# Altium footprint library AT89S.PcbLib: 2 footprints
Each footprint in its own frame and in the unit in brackets; x right, y up, seen from the top. Pads: shape width x height; smd on the part's side, far side on the other; paste and mask are expansions set on the pad; w line width, h text height; cw(c..) or ccw(c..) is an arc to the next point about the centre after c.
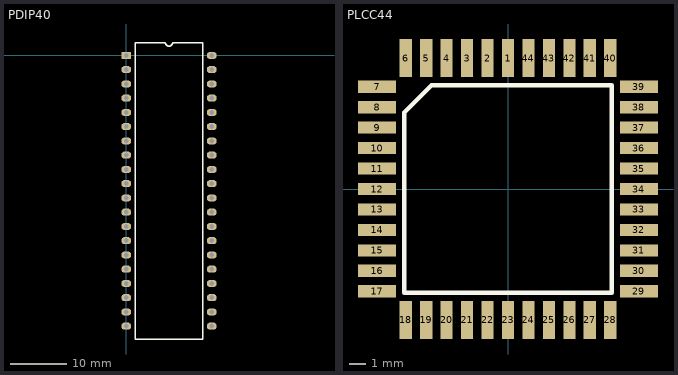
[diagram p0: the footprints below, top view; thin cyan lines are the x and y axes]

## PDIP40 [mil]
pads (40):
  rect 70x50 hole 35: 1(0,0)
  oval 70x50 hole 35: 2(0,-100) 3(0,-200) 4(0,-300) 5(0,-400) 6(0,-500) 7(0,-600) 8(0,-700) 9(0,-800) 10(0,-900) 11(0,-1000) 12(0,-1100) 13(0,-1200) 14(0,-1300) 15(0,-1400) 16(0,-1500) 17(0,-1600) 18(0,-1700) 19(0,-1800) 20(0,-1900) 21(600,-1900) 22(600,-1800) 23(600,-1700) 24(600,-1600) 25(600,-1500) 26(600,-1400) 27(600,-1300) 28(600,-1200) 29(600,-1100) 30(600,-1000) 31(600,-900) 32(600,-800) 33(600,-700) 34(600,-600) 35(600,-500) 36(600,-400) 37(600,-300) 38(600,-200) 39(600,-100) 40(600,0)
Top Overlay:
  lines w10: 63.78,-1990 536.22,-1990 536.22,90 325,90 cw(c300,90) 275,90 63.78,90 63.78,-1990
3D body: height 100, standoff 15, extent 63.78,-1990 536.22,90.08
3D body: height 50, standoff 0, extent 536.5,-12 610,12.01
3D body: height 50, standoff 0, extent 536.5,-112 610,-87.99
3D body: height 50, standoff 0, extent 536.5,-212 610,-187.99
3D body: height 50, standoff 0, extent 536.5,-312 610,-287.99
3D body: height 50, standoff 0, extent 536.5,-412 610,-387.99
3D body: height 50, standoff 0, extent 536.5,-512 610,-487.99
3D body: height 50, standoff 0, extent 536.5,-612 610,-587.99
3D body: height 50, standoff 0, extent 536.5,-712 610,-687.99
3D body: height 50, standoff 0, extent 536.5,-812 610,-787.99
3D body: height 50, standoff 0, extent 536.5,-912 610,-887.99
3D body: height 50, standoff 0, extent 536.5,-1012 610,-987.99
3D body: height 50, standoff 0, extent 536.5,-1112 610,-1087.99
3D body: height 50, standoff 0, extent 536.5,-1212 610,-1187.99
3D body: height 50, standoff 0, extent 536.5,-1312 610,-1287.99
3D body: height 50, standoff 0, extent 536.5,-1412 610,-1387.99
3D body: height 50, standoff 0, extent 536.5,-1512 610,-1487.99
3D body: height 50, standoff 0, extent 536.5,-1612 610,-1587.99
3D body: height 50, standoff 0, extent 536.5,-1712 610,-1687.99
3D body: height 50, standoff 0, extent 536.5,-1812 610,-1787.99
3D body: height 50, standoff 0, extent 536.5,-1912 610,-1887.99
3D body: height 50, standoff 0, extent -10,-1912.01 63.5,-1888
3D body: height 50, standoff 0, extent -10,-1812.01 63.5,-1788
3D body: height 50, standoff 0, extent -10,-1712.01 63.5,-1688
3D body: height 50, standoff 0, extent -10,-1612.01 63.5,-1588
3D body: height 50, standoff 0, extent -10,-1512.01 63.5,-1488
3D body: height 50, standoff 0, extent -10,-1412.01 63.5,-1388
3D body: height 50, standoff 0, extent -10,-1312.01 63.5,-1288
3D body: height 50, standoff 0, extent -10,-1212.01 63.5,-1188
3D body: height 50, standoff 0, extent -10,-1112.01 63.5,-1088
3D body: height 50, standoff 0, extent -10,-1012.01 63.5,-988
3D body: height 50, standoff 0, extent -10,-912.01 63.5,-888
3D body: height 50, standoff 0, extent -10,-812.01 63.5,-788
3D body: height 50, standoff 0, extent -10,-712.01 63.5,-688
3D body: height 50, standoff 0, extent -10,-612.01 63.5,-588
3D body: height 50, standoff 0, extent -10,-512.01 63.5,-488
3D body: height 50, standoff 0, extent -10,-412.01 63.5,-388
3D body: height 50, standoff 0, extent -10,-312.01 63.5,-288
3D body: height 50, standoff 0, extent -10,-212.01 63.5,-188
3D body: height 50, standoff 0, extent -10,-112.01 63.5,-88
3D body: height 50, standoff 0, extent -10,-12.01 63.5,12

## PLCC44 [mil]
pads (44):
  rect 30x93 smd: 1(0,320) 2(-50,320) 3(-100,320) 4(-150,320) 5(-200,320) 6(-250,320) 18(-250,-320) 19(-200,-320) 20(-150,-320) 21(-100,-320) 22(-50,-320) 23(0,-320) 24(50,-320) 25(100,-320) 26(150,-320) 27(200,-320) 28(250,-320) 40(250,320) 41(200,320) 42(150,320) 43(100,320) 44(50,320)
  rect 93x30 smd: 7(-320,250) 8(-320,200) 9(-320,150) 10(-320,100) 11(-320,50) 12(-320,0) 13(-320,-50) 14(-320,-100) 15(-320,-150) 16(-320,-200) 17(-320,-250) 29(320,-250) 30(320,-200) 31(320,-150) 32(320,-100) 33(320,-50) 34(320,0) 35(320,50) 36(320,100) 37(320,150) 38(320,200) 39(320,250)
Top Overlay:
  lines w10: -253.5,-253.5 253.5,-253.5 253.5,253.5 -187,253.5 -253.5,187 -253.5,-253.5
3D body: height 105.12, standoff 0, extent -264.27,326.77 -235.73,346.46
3D body: height 105.12, standoff 0, extent -214.27,326.77 -185.73,346.46
3D body: height 105.12, standoff 0, extent -164.27,326.77 -135.73,346.46
3D body: height 105.12, standoff 0, extent -114.27,326.77 -85.73,346.46
3D body: height 105.12, standoff 0, extent -64.27,326.77 -35.73,346.46
3D body: height 105.12, standoff 0, extent -14.27,326.77 14.27,346.46
3D body: height 105.12, standoff 0, extent 35.73,326.77 64.27,346.46
3D body: height 105.12, standoff 0, extent 85.73,326.77 114.27,346.46
3D body: height 105.12, standoff 0, extent 135.73,326.77 164.27,346.46
3D body: height 105.12, standoff 0, extent 185.73,326.77 214.27,346.46
3D body: height 105.12, standoff 0, extent 235.73,326.77 264.27,346.46
3D body: height 105.12, standoff 0, extent 326.77,235.73 346.46,264.27
3D body: height 105.12, standoff 0, extent 326.77,185.73 346.46,214.27
3D body: height 105.12, standoff 0, extent 326.77,135.73 346.46,164.27
3D body: height 105.12, standoff 0, extent 326.77,85.73 346.46,114.27
3D body: height 105.12, standoff 0, extent 326.77,35.73 346.46,64.27
3D body: height 105.12, standoff 0, extent 326.77,-14.27 346.46,14.27
3D body: height 105.12, standoff 0, extent 326.77,-64.27 346.46,-35.73
3D body: height 105.12, standoff 0, extent 326.77,-114.27 346.46,-85.73
3D body: height 105.12, standoff 0, extent 326.77,-164.27 346.46,-135.73
3D body: height 105.12, standoff 0, extent 326.77,-214.27 346.46,-185.73
3D body: height 105.12, standoff 0, extent 326.77,-264.27 346.46,-235.73
3D body: height 105.12, standoff 0, extent 235.73,-346.46 264.27,-326.77
3D body: height 105.12, standoff 0, extent 185.73,-346.46 214.27,-326.77
3D body: height 105.12, standoff 0, extent 135.73,-346.46 164.27,-326.77
3D body: height 105.12, standoff 0, extent 85.73,-346.46 114.27,-326.77
3D body: height 105.12, standoff 0, extent 35.73,-346.46 64.27,-326.77
3D body: height 105.12, standoff 0, extent -14.27,-346.46 14.27,-326.77
3D body: height 105.12, standoff 0, extent -64.27,-346.46 -35.73,-326.77
3D body: height 105.12, standoff 0, extent -114.27,-346.46 -85.73,-326.77
3D body: height 105.12, standoff 0, extent -164.27,-346.46 -135.73,-326.77
3D body: height 105.12, standoff 0, extent -214.27,-346.46 -185.73,-326.77
3D body: height 105.12, standoff 0, extent -264.27,-346.46 -235.73,-326.77
3D body: height 105.12, standoff 0, extent -346.46,-264.27 -326.77,-235.73
3D body: height 105.12, standoff 0, extent -346.46,-214.27 -326.77,-185.73
3D body: height 105.12, standoff 0, extent -346.46,-164.27 -326.77,-135.73
3D body: height 105.12, standoff 0, extent -346.46,-114.27 -326.77,-85.73
3D body: height 105.12, standoff 0, extent -346.46,-64.27 -326.77,-35.73
3D body: height 105.12, standoff 0, extent -346.46,-14.27 -326.77,14.27
3D body: height 105.12, standoff 0, extent -346.46,35.73 -326.77,64.27
3D body: height 105.12, standoff 0, extent -346.46,85.73 -326.77,114.27
3D body: height 105.12, standoff 0, extent -346.46,135.73 -326.77,164.27
3D body: height 105.12, standoff 0, extent -346.46,185.73 -326.77,214.27
3D body: height 105.12, standoff 0, extent -346.46,235.73 -326.77,264.27
3D body: height 172.52, standoff 20, extent -326.78,-326.77 326.77,326.78